# Altium schematic symbol library Modules.SchLib: 1 symbol
Pins are listed as number, name and electrical type; pins without a type are passive.

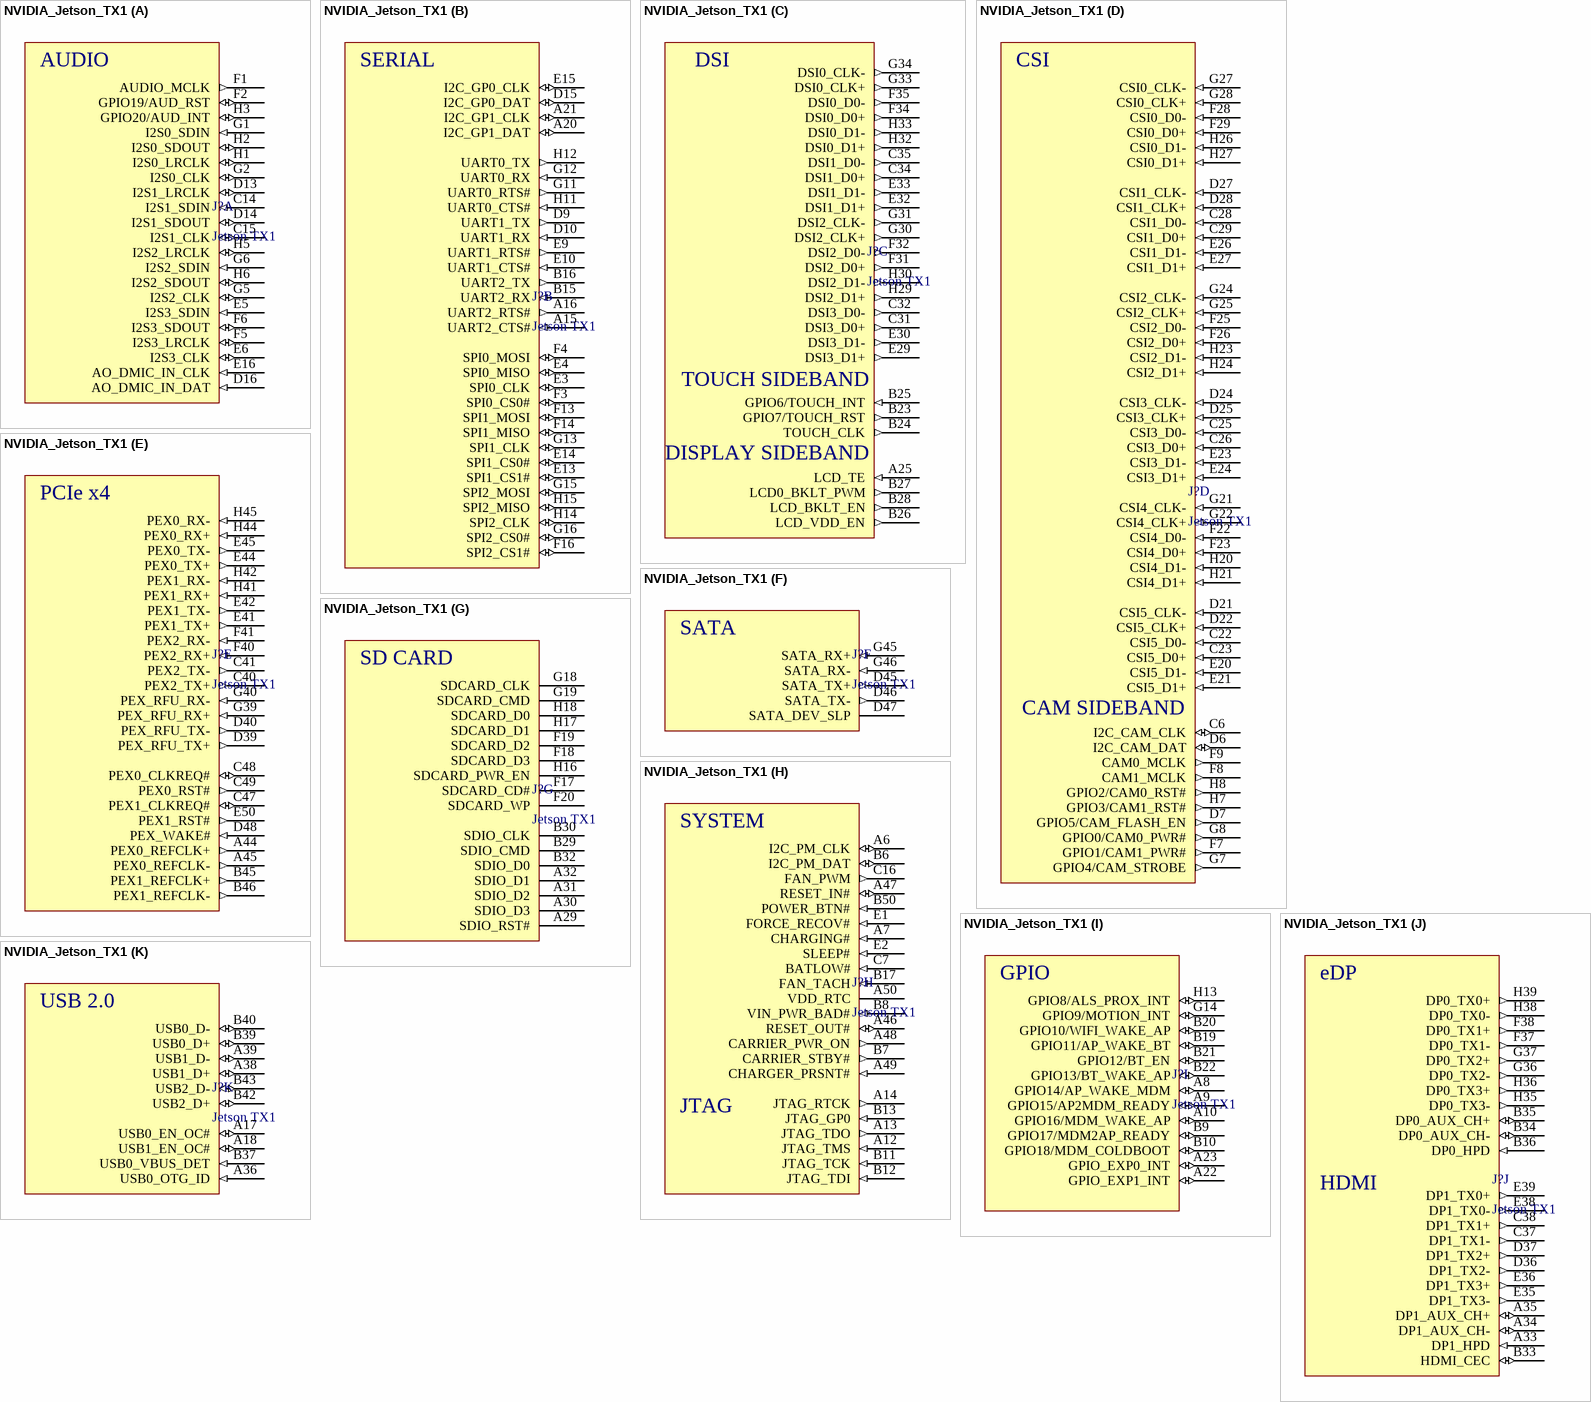
[diagram p0: symbol NVIDIA_Jetson_TX1]

## NVIDIA_Jetson_TX1
designator J?, comment Jetson TX1
Nvidia computing module
part A pins: C14 I2S1_SDIN (in), C15 I2S1_CLK (io), D13 I2S1_LRCLK (io), D14 I2S1_SDOUT (io), D16 AO_DMIC_IN_DAT (in), E5 I2S3_SDIN (in), E6 I2S3_CLK (io), E16 AO_DMIC_IN_CLK (in), F1 AUDIO_MCLK (out), F2 GPIO19/AUD_RST (io), F5 I2S3_LRCLK (io), F6 I2S3_SDOUT (io), G1 I2S0_SDIN (in), G2 I2S0_CLK (io), G5 I2S2_CLK (io), G6 I2S2_SDIN (in), H1 I2S0_LRCLK (io), H2 I2S0_SDOUT (io), H3 GPIO20/AUD_INT (io), H5 I2S2_LRCLK (io), H6 I2S2_SDOUT (io)
part B pins: A15 UART2_CTS# (in), A16 UART2_RTS# (out), A20 I2C_GP1_DAT (io), A21 I2C_GP1_CLK (io), B15 UART2_RX (in), B16 UART2_TX (out), D9 UART1_TX (out), D10 UART1_RX (in), D15 I2C_GP0_DAT (io), E3 SPI0_CLK (io), E4 SPI0_MISO (io), E9 UART1_RTS# (out), E10 UART1_CTS# (in), E13 SPI1_CS1# (io), E14 SPI1_CS0# (io), E15 I2C_GP0_CLK (io), F3 SPI0_CS0# (io), F4 SPI0_MOSI (io), F13 SPI1_MOSI (io), F14 SPI1_MISO (io), F16 SPI2_CS1# (io), G11 UART0_RTS# (out), G12 UART0_RX (in), G13 SPI1_CLK (io), G15 SPI2_MOSI (io), G16 SPI2_CS0# (io), H11 UART0_CTS# (in), H12 UART0_TX (out), H14 SPI2_CLK (io), H15 SPI2_MISO (io)
part C pins: A25 LCD_TE (in), B23 GPIO7/TOUCH_RST (out), B24 TOUCH_CLK (out), B25 GPIO6/TOUCH_INT (in), B26 LCD_VDD_EN (out), B27 LCD0_BKLT_PWM (out), B28 LCD_BKLT_EN (out), C31 DSI3_D0+ (out), C32 DSI3_D0- (out), C34 DSI1_D0+ (out), C35 DSI1_D0- (out), E29 DSI3_D1+ (out), E30 DSI3_D1- (out), E32 DSI1_D1+ (out), E33 DSI1_D1- (out), F31 DSI2_D0+ (out), F32 DSI2_D0- (out), F34 DSI0_D0+ (out), F35 DSI0_D0- (out), G30 DSI2_CLK+ (out), G31 DSI2_CLK- (out), G33 DSI0_CLK+ (out), G34 DSI0_CLK- (out), H29 DSI2_D1+ (out), H30 DSI2_D1- (out), H32 DSI0_D1+ (out), H33 DSI0_D1- (out)
part D pins: C6 I2C_CAM_CLK (io), C22 CSI5_D0- (in), C23 CSI5_D0+ (in), C25 CSI3_D0- (in), C26 CSI3_D0+ (in), C28 CSI1_D0- (in), C29 CSI1_D0+ (in), D6 I2C_CAM_DAT (io), D7 GPIO5/CAM_FLASH_EN (out), D21 CSI5_CLK- (in), D22 CSI5_CLK+ (in), D24 CSI3_CLK- (in), D25 CSI3_CLK+ (in), D27 CSI1_CLK- (in), D28 CSI1_CLK+ (in), E20 CSI5_D1- (in), E21 CSI5_D1+ (in), E23 CSI3_D1- (in), E24 CSI3_D1+ (in), E26 CSI1_D1- (in), E27 CSI1_D1+ (in), F7 GPIO1/CAM1_PWR# (out), F8 CAM1_MCLK (out), F9 CAM0_MCLK (out), F22 CSI4_D0- (in), F23 CSI4_D0+ (in), F25 CSI2_D0- (in), F26 CSI2_D0+ (in), F28 CSI0_D0- (in), F29 CSI0_D0+ (in), G7 GPIO4/CAM_STROBE (out), G8 GPIO0/CAM0_PWR# (out), G21 CSI4_CLK- (in), G22 CSI4_CLK+ (in), G24 CSI2_CLK- (in), G25 CSI2_CLK+ (in), G27 CSI0_CLK- (in), G28 CSI0_CLK+ (in), H7 GPIO3/CAM1_RST# (out), H8 GPIO2/CAM0_RST# (out), H20 CSI4_D1- (in), H21 CSI4_D1+ (in), H23 CSI2_D1- (in), H24 CSI2_D1+ (in), H26 CSI0_D1- (in), H27 CSI0_D1+ (in)
part E pins: A44 PEX0_REFCLK+ (out), A45 PEX0_REFCLK- (out), B45 PEX1_REFCLK+ (out), B46 PEX1_REFCLK- (out), C40 PEX2_TX+ (out), C41 PEX2_TX- (out), C47 PEX1_CLKREQ# (io), C48 PEX0_CLKREQ# (io), C49 PEX0_RST# (out), D39 PEX_RFU_TX+ (out), D40 PEX_RFU_TX- (out), D48 PEX_WAKE# (in), E41 PEX1_TX+ (out), E42 PEX1_TX- (out), E44 PEX0_TX+ (out), E45 PEX0_TX- (out), E50 PEX1_RST# (out), F40 PEX2_RX+ (in), F41 PEX2_RX- (in), G39 PEX_RFU_RX+ (in), G40 PEX_RFU_RX- (in), H41 PEX1_RX+ (in), H42 PEX1_RX- (in), H44 PEX0_RX+ (in), H45 PEX0_RX- (in)
part F pins: D45 SATA_TX+ (out), D46 SATA_TX- (out), D47 SATA_DEV_SLP, G45 SATA_RX+ (in), G46 SATA_RX- (in)
part G pins: A29 SDIO_RST#, A30 SDIO_D3, A31 SDIO_D2, A32 SDIO_D1, B29 SDIO_CMD, B30 SDIO_CLK, B32 SDIO_D0, F17 SDCARD_CD#, F18 SDCARD_D3, F19 SDCARD_D2, F20 SDCARD_WP, G18 SDCARD_CLK, G19 SDCARD_CMD, H16 SDCARD_PWR_EN, H17 SDCARD_D1, H18 SDCARD_D0
part H pins: A6 I2C_PM_CLK (io), A7 CHARGING# (in), A12 JTAG_TMS (in), A13 JTAG_TDO (out), A14 JTAG_RTCK (out), A46 RESET_OUT# (io), A47 RESET_IN# (io), A48 CARRIER_PWR_ON (out), A49 CHARGER_PRSNT# (in), A50 VDD_RTC (power), B6 I2C_PM_DAT (io), B7 CARRIER_STBY# (out), B8 VIN_PWR_BAD# (in), B11 JTAG_TCK (in), B12 JTAG_TDI (in), B13 JTAG_GP0 (in), B17 FAN_TACH (in), B50 POWER_BTN# (in), C7 BATLOW# (in), C16 FAN_PWM (out), E1 FORCE_RECOV# (in), E2 SLEEP# (in)
part I pins: A8 GPIO14/AP_WAKE_MDM (io), A9 GPIO15/AP2MDM_READY (io), A10 GPIO16/MDM_WAKE_AP (io), A22 GPIO_EXP1_INT (io), A23 GPIO_EXP0_INT (io), B9 GPIO17/MDM2AP_READY (io), B10 GPIO18/MDM_COLDBOOT (io), B19 GPIO11/AP_WAKE_BT (io), B20 GPIO10/WIFI_WAKE_AP (io), B21 GPIO12/BT_EN (io), B22 GPIO13/BT_WAKE_AP (io), G14 GPIO9/MOTION_INT (io), H13 GPIO8/ALS_PROX_INT (io)
part J pins: A33 DP1_HPD (in), A34 DP1_AUX_CH- (io), A35 DP1_AUX_CH+ (io), B33 HDMI_CEC (io), B34 DP0_AUX_CH- (io), B35 DP0_AUX_CH+ (io), B36 DP0_HPD (in), C37 DP1_TX1- (out), C38 DP1_TX1+ (out), D36 DP1_TX2- (out), D37 DP1_TX2+ (out), E35 DP1_TX3- (out), E36 DP1_TX3+ (out), E38 DP1_TX0- (out), E39 DP1_TX0+ (out), F37 DP0_TX1- (out), F38 DP0_TX1+ (out), G36 DP0_TX2- (out), G37 DP0_TX2+ (out), H35 DP0_TX3- (out), H36 DP0_TX3+ (out), H38 DP0_TX0- (out), H39 DP0_TX0+ (out)
part K pins: A17 USB0_EN_OC# (io), A18 USB1_EN_OC# (io), A36 USB0_OTG_ID (in), A38 USB1_D+ (io), A39 USB1_D- (io), B37 USB0_VBUS_DET (in), B39 USB0_D+ (io), B40 USB0_D- (io), B42 USB2_D+ (io), B43 USB2_D- (io)
part A text: AUDIO
part B text: SERIAL
part C text: DSI; TOUCH SIDEBAND; DISPLAY SIDEBAND
part D text: CSI; CAM SIDEBAND
part E text: PCIe x4
part F text: SATA
part G text: SD CARD
part H text: SYSTEM; JTAG
part I text: GPIO
part J text: eDP; HDMI
part K text: USB 2.0